# EAGLE library part HAUPTSCHUETZ_3-POL_HILFSKONTAKT_11-12_13-14 (library e-schuetze-relais)
Hauptschütz mit Öffner und Schließer
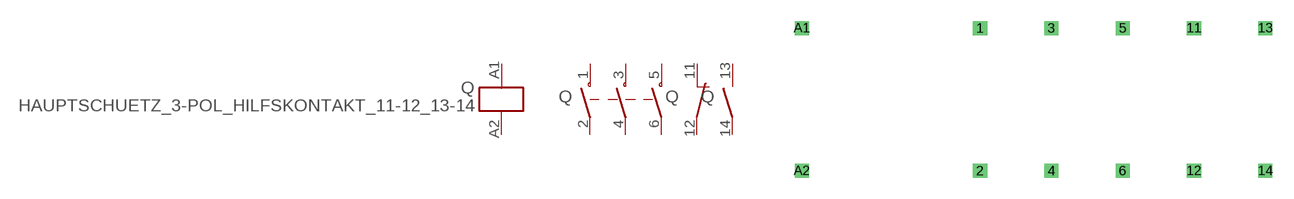
[diagram p17: symbol with the pads of HAUPTSCHUETZ_3-POL+HILFSKONTAKT_12-12_13-14; footprint HAUPTSCHUETZ_3-POL+HILFSKONTAKT_12-12_13-14]

Designator prefix Q; gates G$1=SPULE G$2=SCHLIESSER_HAUPTSCHUETZ_3-POL G$3=OEFFNER G$4=SCHLIESSER

## HAUPTSCHUETZ_3-POL_HILFSKONTAKT_11-12_13-14  [HAUPTSCHUETZ_3-POL+HILFSKONTAKT_12-12_13-14]
1  G$2:1  pas
2  G$2:2  pas
3  G$2:3  pas
4  G$2:4  pas
5  G$2:5  pas
6  G$2:6  pas
11  G$3:1  pas
12  G$3:2  pas
13  G$4:3  pas
14  G$4:4  pas
A1  G$1:A1  in
A2  G$1:A2  in

## Footprint HAUPTSCHUETZ_3-POL+HILFSKONTAKT_12-12_13-14 (pad centres in mm)
Dummy
drill 0.5 pad 1 square: 1 2.54,2.54; 2 2.54,-7.62; 3 7.62,2.54; 4 7.62,-7.62; 5 12.7,2.54; 6 12.7,-7.62; 11 17.78,2.54; 12 17.78,-7.62; 13 22.86,2.54; 14 22.86,-7.62; A1 -10.16,2.54; A2 -10.16,-7.62